# Altium footprint library MicLib.PcbLib: 16 footprints
Each footprint in its own frame and in the unit in brackets; x right, y up, seen from the top. Pads: shape width x height; smd on the part's side, far side on the other; paste and mask are expansions set on the pad; w line width, h text height; cw(c..) or ccw(c..) is an arc to the next point about the centre after c.
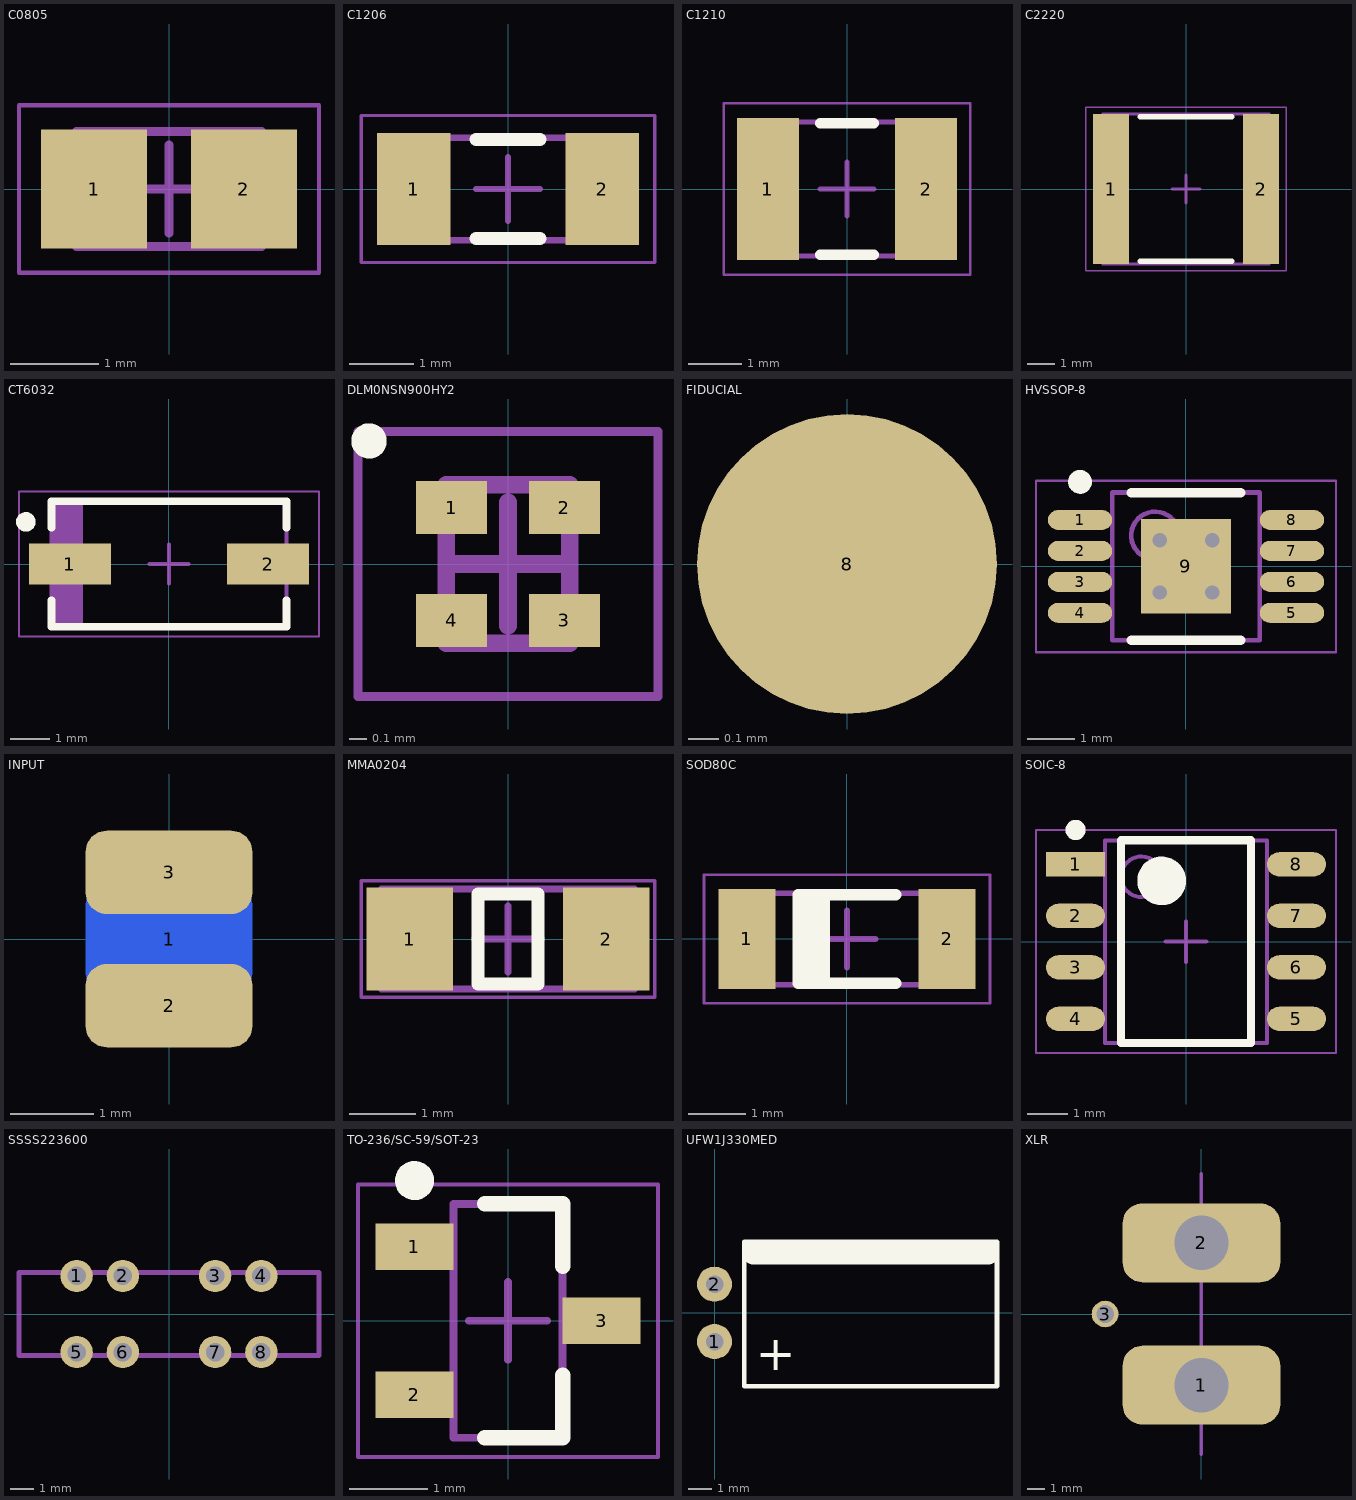
[diagram p0: the footprints below, top view; thin cyan lines are the x and y axes]

## C0805 [mm] "Chip Capacitor, 2-Leads, Body 2.00x1.20mm, IPC Medium Density"
height 1
pads (2):
  rect 1.2x1.35 smd: 1(-0.85,0) 2(0.85,0)
Mechanical 13:
  lines w0.1: -1.05,-0.65 -1.05,0.65 1.05,0.65 1.05,-0.65 -1.05,-0.65
Mechanical 15:
  lines w0.05: -1.7,-0.95 -1.7,0.95 1.7,0.95 1.7,-0.95 -1.7,-0.95
  lines w0.1: -0.5,0 0.5,0 ; 0,-0.5 0,0.5
3D body "C0805.step": height 1, standoff 0, extent -1.05,-0.65 1.05,0.65

## C1206 [mm] "Chip Capacitor, 2-Leads, Body 3.20x1.60mm, IPC Medium Density"
height 1
pads (2):
  rect 1.15x1.75 smd: 1(-1.475,0) 2(1.475,0)
Top Overlay:
  lines w0.2: -0.5,-0.775 0.5,-0.775 ; -0.5,0.775 0.5,0.775
Mechanical 13:
  lines w0.1: -1.6,-0.8 -1.6,0.8 1.6,0.8 1.6,-0.8 -1.6,-0.8
Mechanical 15:
  lines w0.05: -2.3,-1.15 -2.3,1.15 2.3,1.15 2.3,-1.15 -2.3,-1.15
  lines w0.1: -0.5,0 0.5,0 ; 0,-0.5 0,0.5
3D body "C1206.step": height 1, standoff 0, extent -1.6,-0.8 1.6,0.8

## C1210 [mm] "Chip Capacitor, 2-Leads, Body 3.20x2.50mm, IPC Medium Density"
height 1.4
pads (2):
  rect 1.15x2.65 smd: 1(-1.475,0) 2(1.475,0)
Top Overlay:
  lines w0.2: -0.5,-1.225 0.5,-1.225 ; -0.5,1.225 0.5,1.225
Mechanical 13:
  lines w0.1: -1.6,-1.25 -1.6,1.25 1.6,1.25 1.6,-1.25 -1.6,-1.25
Mechanical 15:
  lines w0.05: -2.3,-1.6 -2.3,1.6 2.3,1.6 2.3,-1.6 -2.3,-1.6
  lines w0.1: -0.5,0 0.5,0 ; 0,-0.5 0,0.5
3D body "C1210.step": height 1.4, standoff 0, extent -1.6,-1.25 1.6,1.25

## C2220 [mm]
pads (2):
  rect 1.3x5.4 smd: 1(-2.7,0) 2(2.7,0)
Top Overlay:
  lines w0.2: -1.65,-2.6 1.65,-2.6 ; -1.65,2.6 1.65,2.6
Mechanical 13:
  lines w0.1: -3,-2.7 3,-2.7 3,2.7 -3,2.7 -3,-2.7
Mechanical 15:
  lines w0.05: -3.6,-2.95 3.6,-2.95 3.6,2.95 -3.6,2.95 -3.6,-2.95
  lines w0.1: -0.5,0 0.5,0 ; 0,-0.5 0,0.5
3D body "C2220.step": height 3, standoff 0, extent -3,-2.7 3,2.7

## CT6032 [mm] "Molded Capacitor, 2-Leads, Body 6.00x3.20mm, IPC Medium Density"
height 2.5
pads (2):
  rect 2.1x1.05 smd: 1(-2.525,0) 2(2.525,0)
Top Overlay:
  circle w0.25: c-3.65,1.075 r0.125
  lines w0.2: -3,-0.925 -3,-1.6 3,-1.6 3,-0.925 ; -3,0.925 -3,1.6 3,1.6 3,0.925
Mechanical 13:
  rectangle: -3,-1.6 -2.193,1.6
  lines w0.1: -3,-1.6 3,-1.6 3,1.6 -3,1.6 -3,-1.6
Mechanical 15:
  lines w0.05: -3.825,-1.85 3.825,-1.85 3.825,1.85 -3.825,1.85 -3.825,-1.85
  lines w0.1: -0.5,0 0.5,0 ; 0,-0.5 0,0.5
3D body "CT6032.step": height 2.5, standoff 0, extent -3.22,-1.6 3.22,1.6

## DLM0NSN900HY2 [mm] "Chip Inductor, 2-Leads, Body 0.65x0.85mm, IPC Medium Density"
height 0.5
pads (4):
  rect 0.4x0.3 smd: 1(-0.32,0.32) 2(0.32,0.32) 3(0.32,-0.32) 4(-0.32,-0.32)
Top Overlay:
  circle w0.1: c-0.787,0.697 r0.05
Mechanical 13:
  lines w0.1: -0.35,-0.45 -0.35,0.45 0.35,0.45 0.35,-0.45 -0.35,-0.45
Mechanical 15:
  lines w0.05: -0.85,-0.75 -0.85,0.75 0.85,0.75 0.85,-0.75 -0.85,-0.75
  lines w0.1: -0.35,0 0.35,0 ; 0,-0.35 0,0.35
3D body "DLM0NSN900HY2.step": height 0.5, standoff 0, extent -0.35,-0.45 0.35,0.45

## FIDUCIAL [mm]
pads (1):
  round 1 smd mask+1: 8(0,0)

## HVSSOP-8 [mm] "TSOP, 8-Leads, Body 3.00x3.00mm, Pitch 0.65mm, Thermal Pad 1.98x1.88mm, IPC Medium Density"
height 1.1
pads (9):
  oval 1.35x0.42 smd: 1(-2.225,0.975) 2(-2.225,0.325) 3(-2.225,-0.325) 4(-2.225,-0.975) 5(2.225,-0.975) 6(2.225,-0.325) 7(2.225,0.325) 8(2.225,0.975)
  rect 1.88x1.98 smd: 9(0,0)
via 0.55,-0.55 diameter 0.6 hole 0.3
via -0.55,-0.55 diameter 0.6 hole 0.3
via 0.55,0.55 diameter 0.6 hole 0.3
via -0.55,0.55 diameter 0.6 hole 0.3
Top Overlay:
  circle w0.25: c-2.225,1.775 r0.125
  lines w0.2: -1.15,-1.55 1.15,-1.55 ; -1.15,1.55 1.15,1.55
Mechanical 13:
  circle w0.1: c-0.65,0.65 r0.5
  lines w0.1: -1.55,-1.55 1.55,-1.55 1.55,1.55 -1.55,1.55 -1.55,-1.55
Mechanical 15:
  lines w0.05: -3.15,-1.8 3.15,-1.8 3.15,1.8 -3.15,1.8 -3.15,-1.8
  lines w0.1: -0.5,0 0.5,0 ; 0,-0.5 0,0.5
3D body "HVSSOP-8.step": height 1.1, standoff 0, extent -2.45,-1.55 2.45,1.55

## INPUT [mm]
pads (3):
  rrect50% 2x1.5 smd far side: 1(0,0)
  rrect50% 2x1 smd: 2(0,-0.8) 3(0,0.8)

## MMA0204 [mm] "MELF Resistor, 2-Leads, Body 3.60x1.40mm, IPC High Density"
height 1.5
pads (2):
  rect 1.3x1.55 smd: 1(-1.475,0) 2(1.475,0)
Top Overlay:
  lines w0.2: -0.45,-0.675 -0.45,0.675 0.45,0.675 0.45,-0.675 -0.45,-0.675
Mechanical 13:
  lines w0.1: -1.9,-0.75 1.9,-0.75 1.9,0.75 -1.9,0.75 -1.9,-0.75
Mechanical 15:
  lines w0.05: -2.2,-0.875 2.2,-0.875 2.2,0.875 -2.2,0.875 -2.2,-0.875
  lines w0.1: -0.5,0 0.5,0 ; 0,-0.5 0,0.5
3D body "MMA0204.step": height 1.4, standoff 0.01, extent -1.8,-0.699 1.8,0.699

## SOD80C [mm] "MELF Diode, 2-Leads, Body 3.50x1.53mm, IPC Medium Density"
height 1.6
pads (2):
  rect 1x1.75 smd: 1(-1.75,0) 2(1.75,0)
Top Overlay:
  rectangle: -0.85,-0.775 -0.3,0.775
  lines w0.2: 0.85,-0.775 -0.85,-0.775 -0.85,0.775 0.85,0.775
Mechanical 13:
  lines w0.1: -1.85,-0.8 1.85,-0.8 1.85,0.8 -1.85,0.8 -1.85,-0.8
Mechanical 15:
  lines w0.05: -2.5,-1.125 2.5,-1.125 2.5,1.125 -2.5,1.125 -2.5,-1.125
  lines w0.1: -0.5,0 0.5,0 ; 0,-0.5 0,0.5
3D body "SOD80C.step": height 1.53, standoff 0.01, extent -1.75,-0.761 1.75,0.761

## SOIC-8 [mm] "SOIC, 8-Leads, Body 4.90x3.90mm, Pitch 1.27mm, IPC Medium Density"
height 1.75
pads (8):
  rect 1.45x0.6 smd: 1(-2.725,1.905)
  oval 1.45x0.6 smd: 2(-2.725,0.635) 3(-2.725,-0.635) 4(-2.725,-1.905) 5(2.725,-1.905) 6(2.725,-0.635) 7(2.725,0.635) 8(2.725,1.905)
Top Overlay:
  circle w0.25: c-2.725,2.755 r0.125
  circle w0.6: c-0.6,1.5 r0.3
  lines w0.2: -1.6,-2.5 -1.6,2.5 1.6,2.5 1.6,-2.5 -1.6,-2.5
Mechanical 13:
  circle w0.1: c-1.1,1.6 r0.5
  lines w0.1: -2,-2.5 -2,2.5 2,2.5 2,-2.5 -2,-2.5
Mechanical 15:
  lines w0.05: -3.7,-2.75 -3.7,2.75 3.7,2.75 3.7,-2.75 -3.7,-2.75
  lines w0.1: -0.5,0 0.5,0 ; 0,-0.5 0,0.5
3D body "SOIC-8.step": height 1.75, standoff 0, extent -3,-2.5 3,2.5

## SSSS223600 [mm]
pads (8):
  round 1.4 hole 0.8: 1(-4,1.65) 2(-2,1.65) 3(2,1.65) 4(4,1.65) 5(-4,-1.65) 6(-2,-1.65) 7(2,-1.65) 8(4,-1.65)
Mechanical 1:
  lines w0.2: -6.5,-1.8 -6.5,1.8 6.5,1.8 6.5,-1.8 -6.5,-1.8
3D body "SSSS223600.STEP": height 5.5, standoff -3, extent -6.5,-1.8 6.5,1.8

## TO-236/SC-59/SOT-23 [mm] "SOT23, 3-Leads, Body 2.90x2.45mm, Pitch 0.95mm, IPC Medium Density"
height 1.1
pads (3):
  rect 1x0.6 smd: 1(-1.2,0.95) 2(-1.2,-0.95) 3(1.2,0)
Top Overlay:
  circle w0.25: c-1.2,1.8 r0.125
  lines w0.2: -0.3,-1.5 0.7,-1.5 0.7,-0.7 ; -0.3,1.5 0.7,1.5 0.7,0.7
Mechanical 13:
  lines w0.1: -0.7,-1.5 0.7,-1.5 0.7,1.5 -0.7,1.5 -0.7,-1.5
Mechanical 15:
  lines w0.05: -1.925,-1.75 1.925,-1.75 1.925,1.75 -1.925,1.75 -1.925,-1.75
  lines w0.1: -0.5,0 0.5,0 ; 0,-0.5 0,0.5
3D body: height 1.1, standoff 0.05, extent -0.7,-1.5 0.7,1.5

## UFW1J330MED [mil]
pads (2):
  round 60 hole 30: 1(0,-49.21) 2(0,49.21)
Top Overlay:
  lines w7.87: 51.18,-125.98 51.18,122.05 484.25,122.05 484.25,-125.98 51.18,-125.98
  lines w39.37: 66.93,102.36 468.5,102.36
  text "+" at 70.87,-98.43 h60
3D body: height 242.13, standoff -5.91, extent 49.21,-123.89 482.28,123.89

## XLR [mm]
pads (3):
  rrect50% 9x4.5 hole 3.1 square: 1(0,-4.06) 2(0,4.06)
  round 1.524 hole 1: 3(-5.5,0)
Mechanical 1:
  lines w0.2: 0,-8 0,8